# EAGLE library part RELAY-DPDT (library digital-toy)
Note NEC coil has polarity KLEIN RELAIS WASCHDICHT 2 Wechsler Distriibutor: Conrad Electronic, Bestell Nr.: 505226-13 - 24V 505226-13 - 5V 505170-13 - 12V 505170-13 - 48V Bestar Electric Ltd. Source: http://www2.produktinfo.conrad.com/datenblaetter/500000-524999/505226-da-01-en-Kleinrelais_waschdicht_24V.pdf
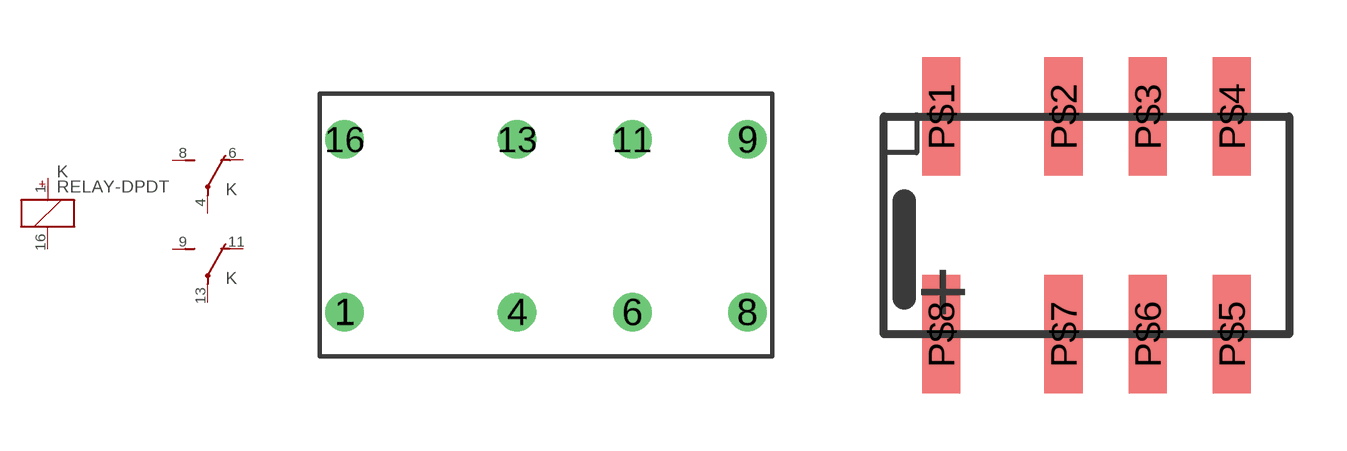
[diagram p24: symbol with the pads of BT-XX-S; footprints BT-XX-S, UB2-NU]

Designator prefix K; gates K=K -1=U -2=U

## RELAY-DPDT12BT, RELAY-DPDT24BT, RELAY-DPDT48BT, RELAY-DPDT5BT, RELAY-DPDT6BT, RELAY-DPDT9BT  [BT-XX-S]
1  K:1  pas
4  -1:P  pas
6  -1:O  pas
8  -1:S  pas
9  -2:S  pas
11  -2:O  pas
13  -2:P  pas
16  K:2  pas

## RELAY-DPDTUB2  [UB2-NU]
P$1  K:2  pas
P$2  -1:O  pas
P$3  -1:P  pas
P$4  -1:S  pas
P$5  -2:S  pas
P$6  -2:P  pas
P$7  -2:O  pas
P$8  K:1  pas

## Footprint BT-XX-S (pad centres in mm)
<ULTRA MINIATUR RELAY Bestar Electric Ltd. Source: http://www2.produktinfo.conrad.com/datenblaetter/500000-524999/505226-da-01-en-Kleinrelais_waschdicht_24V.pdf
drill 1 pad 1.7: 1 -8.89,-3.81; 4 -1.27,-3.81; 6 3.81,-3.81; 8 8.89,-3.81; 9 8.89,3.81; 11 3.81,3.81; 13 -1.27,3.81; 16 -8.89,3.81

## Footprint UB2-NU (pad centres in mm)
NEC UB2 series small signal relay UB2 relay has polarity, P$8 connect to positive.
smd 1 x 3.1: P$1 -3.8,2.85; P$2 -0.6,2.85; P$3 1.6,2.85; P$4 3.8,2.85; P$5 3.8,-2.85; P$6 1.6,-2.85; P$7 -0.6,-2.85; P$8 -3.8,-2.85